# EAGLE library part LTC3101EUF#PBF (library LTC3101EUF#PBF)
LDO Voltage Regulators 2-Cell AA Multioutput DC/DC Converter Source: Datasheet <http://www.analog.com/media/en/technical-documentation/data-sheets/3101fb.pdf>
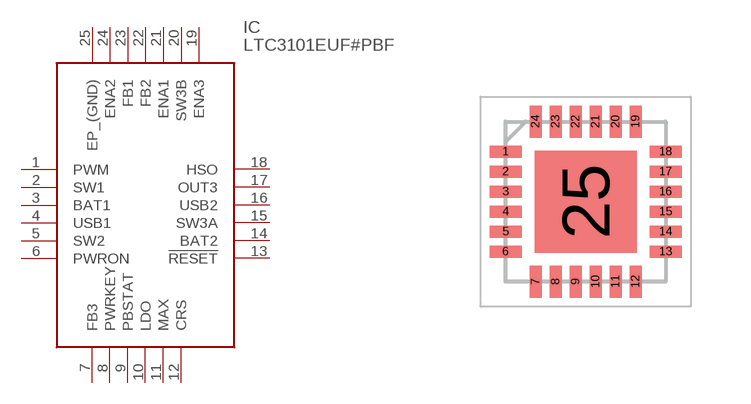
[diagram p0: symbol with the pads of QFN50P400X400X80-25N; footprint QFN50P400X400X80-25N]

Designator prefix IC

## LTC3101EUF#PBF (Arrow_Part_Number: LTC3101EUF#PBF; Arrow_Price/Stock: https://www.arrow.com/en/products/ltc3101eufpbf/linear-technology; Description: LDO Voltage Regulators 2-Cell AA Multioutput DC/DC Converter; Height: 0.8mm; Manufacturer_Name: Linear Technology; Manufacturer_Part_Number: LTC3101EUF#PBF)  [QFN50P400X400X80-25N]
1  PWM
2  SW1
3  BAT1
4  USB1
5  SW2
6  PWRON
7  FB3
8  PWRKEY
9  PBSTAT
10  LDO
11  MAX
12  CRS
13  !RESET
14  BAT2
15  SW3A
16  USB2
17  OUT3
18  HSO
19  ENA3
20  SW3B
21  ENA1
22  FB2
23  FB1
24  ENA2
25  EP_(GND)

## Footprint QFN50P400X400X80-25N (pad centres in mm)
UF Package 24-Lead Plastic QFN (4mm × 4mm)_1
smd 0.8 x 0.3: 1 -2,1.25; 2 -2,0.75; 3 -2,0.25; 4 -2,-0.25; 5 -2,-0.75; 6 -2,-1.25; 13 2,-1.25; 14 2,-0.75; 15 2,-0.25; 16 2,0.25; 17 2,0.75; 18 2,1.25
smd 0.3 x 0.8: 7 -1.25,-2; 8 -0.75,-2; 9 -0.25,-2; 10 0.25,-2; 11 0.75,-2; 12 1.25,-2; 19 1.25,2; 20 0.75,2; 21 0.25,2; 22 -0.25,2; 23 -0.75,2; 24 -1.25,2
smd 2.55 x 2.55: 25 0,0